# Altium footprint library WE-PD2A.PcbLib: 4 footprints
Each footprint in its own frame and in the unit in brackets; x right, y up, seen from the top. Pads: shape width x height; smd on the part's side, far side on the other; paste and mask are expansions set on the pad; w line width, h text height; cw(c..) or ccw(c..) is an arc to the next point about the centre after c.
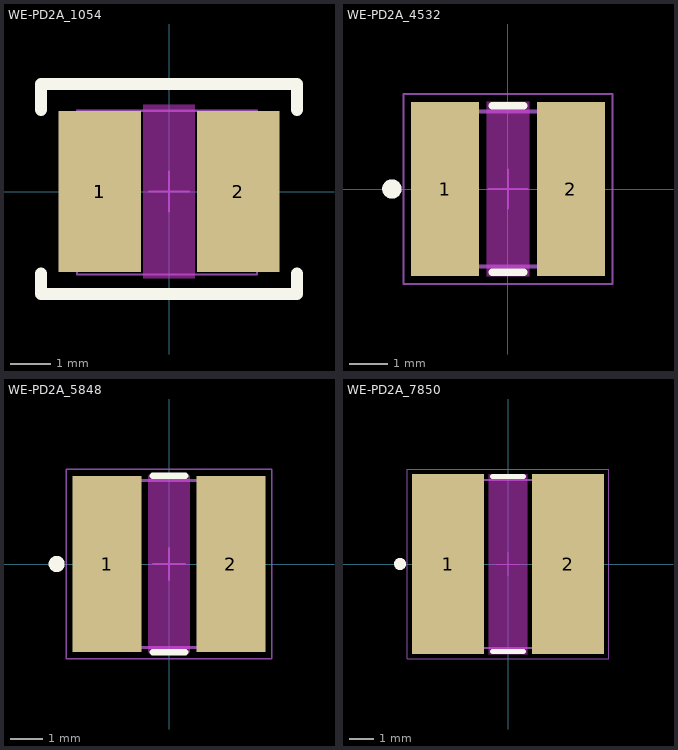
[diagram p0: the footprints below, top view; thin cyan lines are the x and y axes]

## WE-PD2A_1054 [mm] "SMD Power Inductor, body 10x9mm"
height 5.4
pads (3):
  rect 2.05x4 smd: 1(-1.725,0) 1(-1.725,0) 2(1.725,0)
Top Layer keep-out:
  region: -0.635,2.159 0.635,2.159 0.635,-2.159 -0.635,-2.159
Top Overlay:
  lines w0.2: -0.911,2.667 0.889,2.667 ; -0.889,-2.54 0.911,-2.54
  lines w0.3: -3.175,-2.032 -3.175,-2.54 3.175,-2.54 3.175,-2.032 ; -3.175,2.032 -3.175,2.667 3.175,2.667 3.175,2.032
Notes:
  lines w0.05: -2.286,-2.057 -2.286,2.007 -0.66,2.007 2.184,2.007 2.184,-2.057 -2.286,-2.057
Top Courtyard:
  lines w0.05: -0.498,0 0.502,0 ; 0.002,-0.5 0.002,0.5
3D body "SMD_Inductor_CD43.step": height 3.22, standoff -0.01, extent -2.214,-2 2.286,2

## WE-PD2A_4532 [mm] "SMD Power Inductor, body 4.5x4mm"
height 3.2
pads (2):
  rect 1.75x4.5 smd: 1(-1.625,0) 2(1.625,0)
Top Layer keep-out:
  region: -0.55,2.25 0.55,2.25 0.55,-2.25 -0.55,-2.25
Top Overlay:
  circle w0.25: c-3,0.001 r0.125
  lines w0.2: -0.4,-2.15 0.4,-2.15 ; -0.4,2.15 0.4,2.15
Top Designator:
  text ".Designator" at -4.998,-0.333 h1
Top Component Outline:
  circle w0.1: c-1.65,1.4 r0.3
  lines w0.1: -2.25,-2 2.25,-2 2.25,2 -2.25,2 -2.25,-2
Top 3D Body:
  circle w0.1: c-1.65,1.4 r0.3
  lines w0.1: -2.25,-2 2.25,-2 2.25,2 -2.25,2 -2.25,-2
Top Courtyard:
  lines w0.05: -0.5,0 0.5,0 ; 0,-0.5 0,0.5 ; -2.7,-2.45 2.7,-2.45 2.7,2.45 -2.7,2.45 -2.7,-2.45
3D body "STEP-WE-PD2A-4532-rev1.stp": height 3.2, standoff 0, extent -2.155,-2 2.156,2

## WE-PD2A_5848 [mm] "SMD Power Inductor, body 5.8x5.2mm"
height 4.5
pads (2):
  rect 2.15x5.5 smd: 1(-1.925,0) 2(1.925,0)
Top Layer keep-out:
  region: -0.65,2.75 0.65,2.75 0.65,-2.75 -0.65,-2.75
Top Overlay:
  circle w0.25: c-3.5,0.001 r0.125
  lines w0.2: -0.5,-2.75 0.5,-2.75 ; -0.5,2.75 0.5,2.75
Top Designator:
  text ".Designator" at -7.498,-0.5 h1.5
Top Component Outline:
  circle w0.1: c-2.3,2 r0.3
  lines w0.1: -2.9,-2.6 2.9,-2.6 2.9,2.6 -2.9,2.6 -2.9,-2.6
Top 3D Body:
  circle w0.1: c-2.3,2 r0.3
  lines w0.1: -2.9,-2.6 2.9,-2.6 2.9,2.6 -2.9,2.6 -2.9,-2.6
Top Courtyard:
  lines w0.05: -0.5,0 0.5,0 ; 0,-0.5 0,0.5 ; -3.2,-2.95 -3.2,2.95 3.2,2.95 3.2,-2.95 -3.2,-2.95
3D body "STEP-WE-PD2A-5848-rev1.stp": height 4.5, standoff 0, extent -2.899,-2.6 2.889,2.6

## WE-PD2A_7850 [mm] "SMD Power Inductor, body 7.8x7mm"
height 5
pads (2):
  rect 3x7.5 smd: 1(-2.5,0) 2(2.5,0)
Top Layer keep-out:
  region: -0.8,3.75 0.8,3.75 0.8,-3.75 -0.8,-3.75
Top Overlay:
  circle w0.25: c-4.5,0.001 r0.125
  lines w0.2: -0.65,-3.65 0.65,-3.65 ; -0.65,3.65 0.65,3.65
Top Designator:
  text ".Designator" at -7.498,-0.5 h1.5
Top Component Outline:
  circle w0.1: c-3.1,2.7 r0.4
  lines w0.1: -3.9,-3.5 3.9,-3.5 3.9,3.5 -3.9,3.5 -3.9,-3.5
Top 3D Body:
  circle w0.1: c-3.1,2.7 r0.4
  lines w0.1: -3.9,-3.5 3.9,-3.5 3.9,3.5 -3.9,3.5 -3.9,-3.5
Top Courtyard:
  lines w0.05: -0.5,0 0.5,0 ; 0,-0.5 0,0.5 ; -4.2,-3.95 4.2,-3.95 4.2,3.95 -4.2,3.95 -4.2,-3.95
3D body "STEP-WE-PD2A-7850-rev1.stp": height 4.95, standoff 0, extent -3.813,-3.5 3.813,3.5